# EAGLE library part AP1509-50SG-13 (library EW_voltage_regulators)
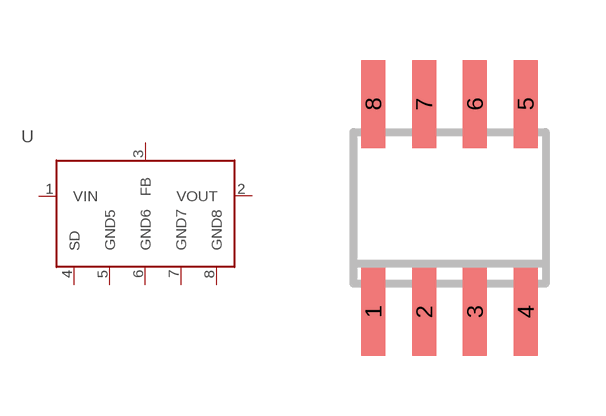
[diagram p0: symbol with the pads of SO08; footprint SO08]

Designator prefix U

## AP1509-50SG-13 (AVAILABILITY: Good; DESCRIPTION: Voltage Regulators - Switching SW REG CNV BUCK ASYN 150K 1.4 22V 5.0V; MF: Diodes Inc.; MP: AP1509-50SG-13; PACKAGE: SOP-8 Diodes Inc.; PRICE: 0.70 USD)  [SO08]
1  VIN
2  VOUT
3  FB
4  SD
5  GND5
6  GND6
7  GND7
8  GND8

## Footprint SO08 (pad centres in mm)
Small Outline Package 8 NS Package M08A
smd 0.6 x 2.2: 1 -1.905,-2.6; 2 -0.635,-2.6; 3 0.635,-2.6; 4 1.905,-2.6; 5 1.905,2.6; 6 0.635,2.6; 7 -0.635,2.6; 8 -1.905,2.6